# Altium footprint library Microphone-Boards.PcbLib: 11 footprints
Each footprint in its own frame and in the unit in brackets; x right, y up, seen from the top. Pads: shape width x height; smd on the part's side, far side on the other; paste and mask are expansions set on the pad; w line width, h text height; cw(c..) or ccw(c..) is an arc to the next point about the centre after c.
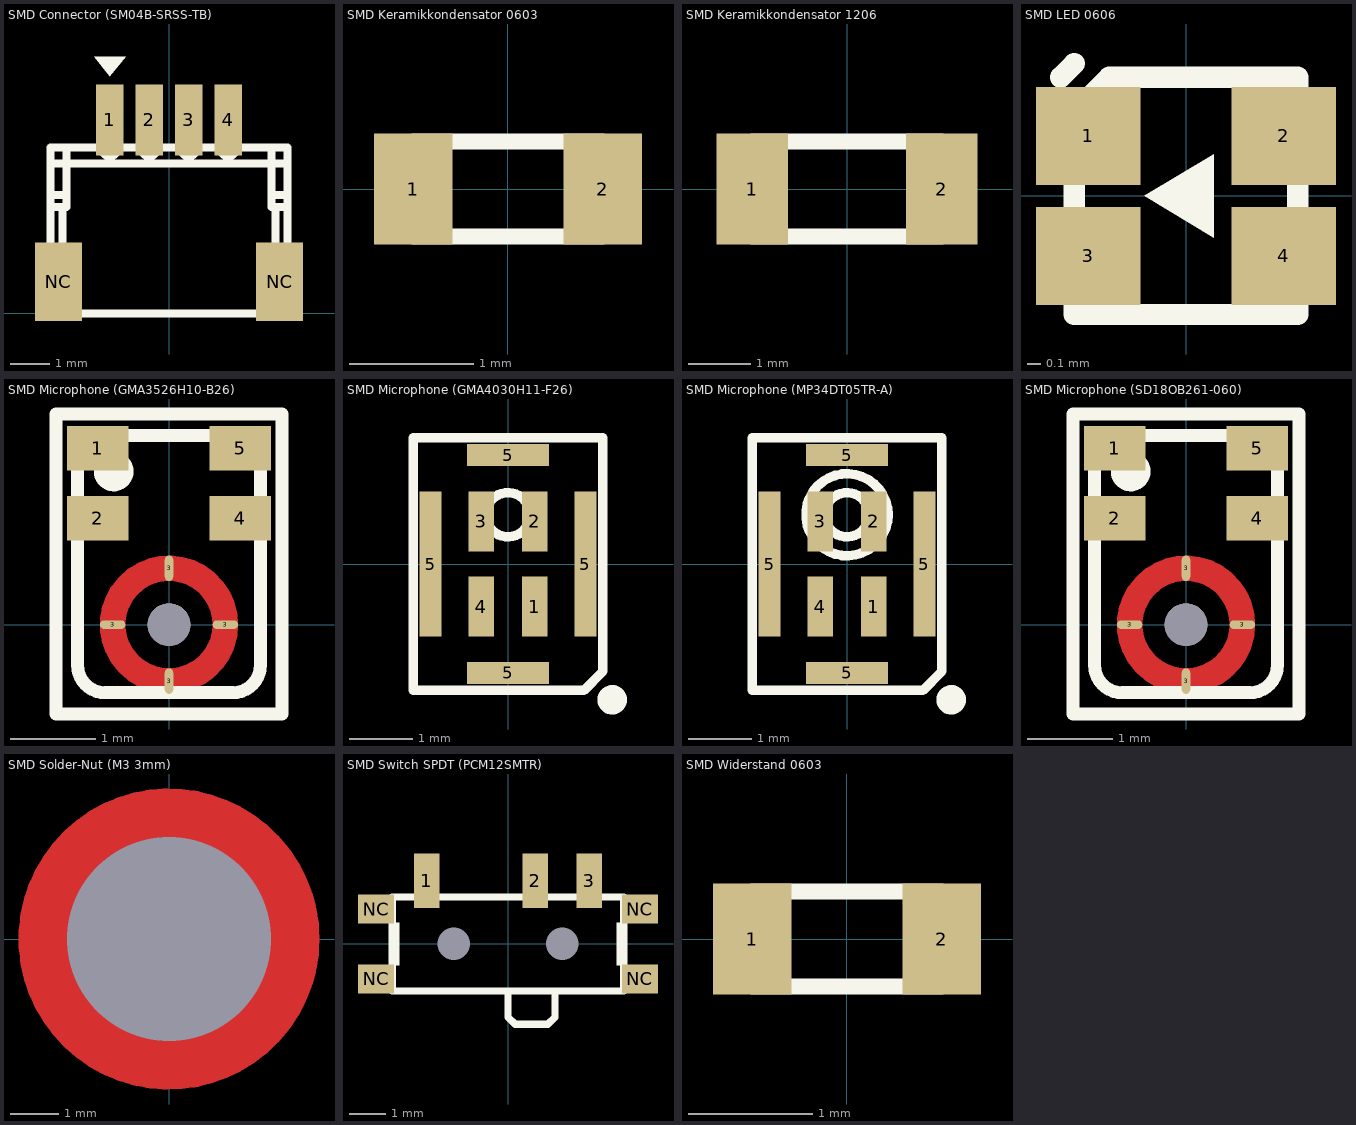
[diagram p0: the footprints below, top view; thin cyan lines are the x and y axes]

## SMD Connector (SM04B-SRSS-TB) [mm] "SMD_LED_RED"
height 8.65
pads (6):
  rect 0.7x1.8 smd: 1(-1.5,4.9) 2(-0.5,4.9) 3(0.5,4.9) 4(1.5,4.9)
  rect 1.2x2 smd: NC(-2.8,0.8) NC(2.8,0.8)
Top Overlay:
  region: -1.5,6 -1.1,6.5 -1.9,6.5
  lines w0.203: -3,2.7 -2.6,2.7 -2.6,3 ; -3,3 -2.6,3 ; -3,3.8 -2.6,3.8 ; -2.7,0 -2.7,2.7 ; -2.6,4.2 -2.6,3.8 ; 2.6,4.2 2.6,3.8 ; 2.7,0 2.7,2.7 ; 3,2.7 2.6,2.7 2.6,3 ; 3,3 2.6,3 ; 3,3.8 2.6,3.8 ; -2.6,3 -2.6,3.8 ; -2.6,3.8 0,3.8 2.6,3.8 ; 2.6,3 2.6,3.8 ; -3,0 0,0 3,0 3,4.2 1.8,4.2 1.6,4 1.4,4 1.2,4.2 0.8,4.2 0.6,4 0.4,4 0.2,4.2 0,4.2 -0.2,4.2 -0.4,4 -0.6,4 -0.8,4.2 -1.2,4.2 -1.4,4 -1.6,4 -1.8,4.2 -3,4.2 -3,0
3D body "SM04B-SRSS-TB(LF)(SN)--3DModel-STEP-56544.STEP": height 2.96, standoff 0, extent -3,0 3,4.95

## SMD Keramikkondensator 0603 [mil]
height 66.93
pads (2):
  rect 25x35 smd: 1(-30,0) 2(30,0)
Top Overlay:
  lines w5: -30,-15 -30,15 30,15 30,-15 -30,-15
3D body "User Library-0603_Cap.STEP": height 31.69, standoff 0, extent -31.49,-15.74 31.5,15.75

## SMD Keramikkondensator 1206 [mil]
pads (2):
  rect 45x70 smd: 1(-60,0) 2(60,0)
Top Overlay:
  lines w10: -60,-30 60,-30 60,30 -60,30 -60,-30
3D body "User Library-1206 SMD Capacitor.step": height 39.45, standoff 0, extent -62.98,-31.49 63,31.51

## SMD LED 0606 [mm] "SMD_LED_RED"
height 8.65
pads (4):
  rect 0.75x0.7 smd: 1(-0.7,0.43) 2(0.7,0.43) 3(-0.7,-0.43) 4(0.7,-0.43)
Top Overlay:
  region: 0.2,0.3 -0.3,0 0.2,-0.3
  lines w0.152: -0.9,0.85 -0.8,0.95 ; -0.8,-0.85 -0.8,0.6 -0.55,0.85 0.8,0.85 0.8,-0.85 -0.8,-0.85
3D body "LED 0606 bi-color.stp": height 0.7, standoff -0.01, extent -0.8,-0.851 0.8,0.851

## SMD Microphone (GMA3526H10-B26) [mm]
pads (9):
  rect 0.725x0.522 smd: 1(-0.837,2.074) 2(-0.837,1.252) 4(0.837,1.252) 5(0.837,2.074)
  oval 0.3x0.1 smd: 3(-0.663,0) 3(0.663,0)
  oval 0.1x0.3 smd: 3(0,-0.663) 3(0,0.663)
  round 0.5 hole 0.5 unplated mask+0.665: ""(0,0)
Top Layer:
  circle w0.3: c0,0 r0.663
Top Overlay:
  circle w0.254: c-0.65,1.8 r0.106
  lines w0.152: -1.325,-1.05 0,-1.05 1.325,-1.05 1.325,2.475 0,2.475 -1.325,2.475 -1.325,-1.05 ; -1.075,-0.475 ccw(c-0.75,-0.475) -0.75,-0.8 0,-0.8 0.75,-0.8 ccw(c0.75,-0.475) 1.075,-0.475 1.075,1.9 ccw(c0.75,1.9) 0.75,2.225 0,2.225 -0.75,2.225 ccw(c-0.75,1.9) -1.075,1.9 -1.075,-0.475
Top Paste:
  region: 0.415,-0.7 0.31,-0.75 0.16,-0.796 0,-0.81 -0.14,-0.8 -0.23,-0.78 -0.31,-0.75 -0.41,-0.7 -0.5,-0.64 -0.385,-0.525 -0.283,-0.426 -0.225,-0.462 -0.12,-0.5 0,-0.514 0.06,-0.51 0.12,-0.5 0.175,-0.485 0.23,-0.46 0.28,-0.435 0.375,-0.53 0.49,-0.645
  region: -0.7,-0.415 -0.75,-0.31 -0.796,-0.16 -0.81,0 -0.8,0.14 -0.78,0.23 -0.75,0.31 -0.7,0.41 -0.64,0.5 -0.525,0.385 -0.426,0.283 -0.462,0.225 -0.5,0.12 -0.514,0 -0.51,-0.06 -0.5,-0.12 -0.485,-0.175 -0.46,-0.23 -0.435,-0.28 -0.53,-0.375 -0.645,-0.49
  region: -0.415,0.7 -0.31,0.75 -0.16,0.796 0,0.81 0.14,0.8 0.23,0.78 0.31,0.75 0.41,0.7 0.5,0.64 0.385,0.525 0.283,0.426 0.225,0.462 0.12,0.5 0,0.514 -0.06,0.51 -0.12,0.5 -0.175,0.485 -0.23,0.46 -0.28,0.435 -0.375,0.53 -0.49,0.645
  region: 0.7,0.415 0.75,0.31 0.796,0.16 0.81,0 0.8,-0.14 0.78,-0.23 0.75,-0.31 0.7,-0.41 0.64,-0.5 0.525,-0.385 0.426,-0.283 0.462,-0.225 0.5,-0.12 0.514,0 0.51,0.06 0.5,0.12 0.485,0.175 0.46,0.23 0.435,0.28 0.53,0.375 0.645,0.49
3D body "SPH0641LU4H-1--3DModel-STEP-56544.STEP": height 1.08, standoff 0, extent -1.325,-1.04 1.325,2.46

## SMD Microphone (GMA4030H11-F26) [mm]
pads (8):
  rect 0.4x0.95 smd: 1(0.425,-0.675) 2(0.425,0.675) 3(-0.425,0.675) 4(-0.425,-0.675)
  rect 0.35x2.3 smd: 5(-1.225,0) 5(1.225,0)
  rect 1.3x0.35 smd: 5(0,-1.725) 5(0,1.725)
Top Overlay:
  circle w0.152: c0,0.78 r0.35
  circle w0.254: c1.65,-2.15 r0.106
  lines w0.152: -1.5,-2 0,-2 1.2,-2 1.5,-1.7 1.5,0 1.5,2 0,2 -1.5,2 -1.5,0 -1.5,-2
3D body "User Library-MP34DT01.STEP": height 1.08, standoff 0.01, extent -1.5,-2 1.5,2

## SMD Microphone (MP34DT05TR-A) [mm]
pads (8):
  rect 0.4x0.95 smd: 1(0.425,-0.675) 2(0.425,0.675) 3(-0.425,0.675) 4(-0.425,-0.675)
  rect 0.35x2.3 smd: 5(-1.225,0) 5(1.225,0)
  rect 1.3x0.35 smd: 5(0,-1.725) 5(0,1.725)
Top Overlay:
  circle w0.152: c0,0.78 r0.35
  circle w0.152: c0,0.78 r0.65
  circle w0.254: c1.65,-2.15 r0.106
  lines w0.152: -1.5,-2 0,-2 1.2,-2 1.5,-1.7 1.5,0 1.5,2 0,2 -1.5,2 -1.5,0 -1.5,-2
3D body "User Library-hclga_4l.x_t": height 1.02, standoff 0.01, extent -1.5,-2 1.5,2

## SMD Microphone (SD18OB261-060) [mm]
pads (9):
  rect 0.725x0.522 smd: 1(-0.837,2.074) 2(-0.837,1.252) 4(0.837,1.252) 5(0.837,2.074)
  oval 0.3x0.1 smd: 3(-0.663,0) 3(0.663,0)
  oval 0.1x0.3 smd: 3(0,-0.663) 3(0,0.663)
  round 0.5 hole 0.5 unplated mask+0.665: ""(0,0)
Top Layer:
  circle w0.3: c0,0 r0.663
Top Overlay:
  circle w0.254: c-0.65,1.8 r0.106
  lines w0.152: -1.325,-1.05 -1.325,2.475 0,2.475 1.325,2.475 1.325,-1.05 0,-1.05 -1.325,-1.05 ; -1.075,-0.475 ccw(c-0.75,-0.475) -0.75,-0.8 0,-0.8 0.75,-0.8 ccw(c0.75,-0.475) 1.075,-0.475 1.075,1.9 ccw(c0.75,1.9) 0.75,2.225 0,2.225 -0.75,2.225 ccw(c-0.75,1.9) -1.075,1.9 -1.075,-0.475
Top Paste:
  region: 0.7,0.415 0.75,0.31 0.796,0.16 0.81,0 0.8,-0.14 0.78,-0.23 0.75,-0.31 0.7,-0.41 0.64,-0.5 0.525,-0.385 0.426,-0.283 0.462,-0.225 0.5,-0.12 0.514,0 0.51,0.06 0.5,0.12 0.485,0.175 0.46,0.23 0.435,0.28 0.53,0.375 0.645,0.49
  region: -0.415,0.7 -0.31,0.75 -0.16,0.796 0,0.81 0.14,0.8 0.23,0.78 0.31,0.75 0.41,0.7 0.5,0.64 0.385,0.525 0.283,0.426 0.225,0.462 0.12,0.5 0,0.514 -0.06,0.51 -0.12,0.5 -0.175,0.485 -0.23,0.46 -0.28,0.435 -0.375,0.53 -0.49,0.645
  region: -0.7,-0.415 -0.75,-0.31 -0.796,-0.16 -0.81,0 -0.8,0.14 -0.78,0.23 -0.75,0.31 -0.7,0.41 -0.64,0.5 -0.525,0.385 -0.426,0.283 -0.462,0.225 -0.5,0.12 -0.514,0 -0.51,-0.06 -0.5,-0.12 -0.485,-0.175 -0.46,-0.23 -0.435,-0.28 -0.53,-0.375 -0.645,-0.49
  region: 0.415,-0.7 0.31,-0.75 0.16,-0.796 0,-0.81 -0.14,-0.8 -0.23,-0.78 -0.31,-0.75 -0.41,-0.7 -0.5,-0.64 -0.385,-0.525 -0.283,-0.426 -0.225,-0.462 -0.12,-0.5 0,-0.514 0.06,-0.51 0.12,-0.5 0.175,-0.485 0.23,-0.46 0.28,-0.435 0.375,-0.53 0.49,-0.645
3D body "SPH0655LM4H-1--3DModel-STEP-1.x_t": height 1.08, standoff 0, extent -1.325,-1.04 1.325,2.46

## SMD Solder-Nut (M3 3mm) [mm]
pads (1):
  round 0 hole 4.22: 1(0,0)
Top Layer:
  circle w1.02: c0,0 r2.61
Top Paste:
  region: 1.989,-0.704 2.042,-0.533 2.102,-0.179 2.102,0.179 2.042,0.533 1.989,0.704 2.914,1.087 3.011,0.826 3.11,0.278 3.11,-0.278 3.011,-0.826 2.914,-1.087
  region: 0.908,1.904 1.067,1.82 1.36,1.613 1.613,1.36 1.82,1.067 1.904,0.908 2.829,1.291 2.714,1.545 2.396,2.002 2.002,2.396 1.545,2.714 1.291,2.829
  region: -0.704,-1.989 -0.533,-2.042 -0.179,-2.102 0.179,-2.102 0.533,-2.042 0.704,-1.989 1.087,-2.914 0.826,-3.011 0.278,-3.11 -0.278,-3.11 -0.826,-3.011 -1.087,-2.914
  region: 1.904,-0.908 1.82,-1.067 1.613,-1.36 1.36,-1.613 1.067,-1.82 0.908,-1.904 1.291,-2.829 1.545,-2.714 2.002,-2.396 2.396,-2.002 2.714,-1.545 2.829,-1.291
  region: -1.989,0.704 -2.042,0.533 -2.102,0.179 -2.102,-0.179 -2.042,-0.533 -1.989,-0.704 -2.914,-1.087 -3.011,-0.826 -3.11,-0.278 -3.11,0.278 -3.011,0.826 -2.914,1.087
  region: -0.908,-1.904 -1.067,-1.82 -1.36,-1.613 -1.613,-1.36 -1.82,-1.067 -1.904,-0.908 -2.829,-1.291 -2.714,-1.545 -2.396,-2.002 -2.002,-2.396 -1.545,-2.714 -1.291,-2.829
  region: 0.704,1.989 0.533,2.042 0.179,2.102 -0.179,2.102 -0.533,2.042 -0.704,1.989 -1.087,2.914 -0.826,3.011 -0.278,3.11 0.278,3.11 0.826,3.011 1.087,2.914
  region: -1.904,0.908 -1.82,1.067 -1.613,1.36 -1.36,1.613 -1.067,1.82 -0.908,1.904 -1.291,2.829 -1.545,2.714 -2.002,2.396 -2.396,2.002 -2.714,1.545 -2.829,1.291
Top Solder:
  circle w1.102: c0,0 r2.661
3D body "SMTSO3030CTJ.x_t": height 3, standoff -1.53, extent -2.606,-2.606 2.606,2.606

## SMD Switch SPDT (PCM12SMTR) [mm]
pads (9):
  rect 0.7x1.5 smd: 1(-2.25,1.75) 2(0.75,1.75) 3(2.25,1.75)
  rect 1x0.8 smd: NC(-3.65,-0.965) NC(-3.65,0.965) NC(3.65,-0.965) NC(3.65,0.965)
  round 0 hole 0.9 unplated: NC(-1.5,0) NC(1.5,0)
Top Overlay:
  rectangle: -3.2,-0.6 -3,0.6
  region: 3.2,0.6 3,0.6 3,-0.6 3.2,-0.6
  lines w0.203: 1.3,-1.3 1.3,-2.025 1.1,-2.225 0.2,-2.225 0,-2.025 0,-1.3 ; 0,-1.3 -3.2,-1.3 -3.2,1.3 0,1.3 3.2,1.3 3.2,-1.3 0,-1.3
3D body "User Library-pcm12smtr.STEP": height 1.4, standoff -0.5, extent -3.681,-2.345 3.673,2.23

## SMD Widerstand 0603 [mil]
height 66.93
pads (2):
  rect 25x35 smd: 1(-30,0) 2(30,0)
Top Overlay:
  lines w5: -30,-15 30,-15 30,15 -30,15 -30,-15
3D body "User Library-Panasonic0603.step": height 17.72, standoff 0, extent -31.5,-16.14 31.5,16.14